# EAGLE library part HDC2010 (library awqua_eagle_library)
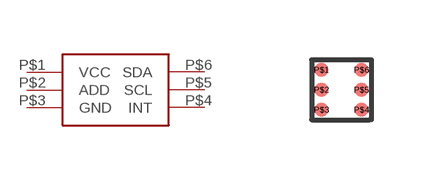
[diagram p25: symbol with the pads of HDC2010; footprint HDC2010]

Designator prefix -

## HDC2010  [HDC2010]
P$1  VCC
P$2  ADD
P$3  GND
P$4  INT
P$5  SCL
P$6  SDA

## Footprint HDC2010 (pad centres in mm)
smd 0.333 x 0.333: P$1 -0.5,0.5; P$2 -0.5,0; P$3 -0.5,-0.5; P$4 0.5,-0.5; P$5 0.5,0; P$6 0.5,0.5